# Altium schematic symbol library Smart_home.SchLib: 9 symbols
Pins are listed as number, name and electrical type; pins without a type are passive.

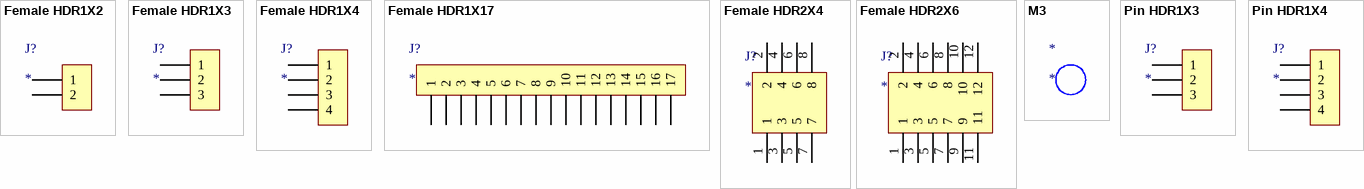
[diagram p0: symbols Female HDR1X2 to Pin HDR1X4]

## Female HDR1X2
designator J?
footprint Fe-HDR1X2/2.54-S (Connector; Header; 2x2 Position)
pins: 1, 2

## Female HDR1X3
designator J?
footprint Fe-HDR1X3/2.54-S
pins: 1, 2, 3

## Female HDR1X4
designator J?
footprint Fe-HDR1X4/2.54-S
pins: 1, 2, 3, 4

## Female HDR1X17
designator J?
footprint Fe-HDR1X17/2.54-S
pins: 1, 2, 3, 4, 5, 6, 7, 8, 9, 10, 11, 12, 13, 14, 15, 16, 17

## Female HDR2X4
designator J?
footprint Fe-HDR2X4/2.54-S (Connector; Header; 4x2 Position)
footprint Fe-HDR2X4/2.54-SMD
pins: 1, 2, 3, 4, 5, 6, 7, 8

## Female HDR2X6
designator J?
footprint Fe-HDR2X6/2.54-S (Connector; Header; 6x2 Position)
footprint Fe-HDR2X6/2.54-SMD
pins: 1, 2, 3, 4, 5, 6, 7, 8, 9, 10, 11, 12

## M3
designator *
铜柱孔; 版权归属: 源创客; BOM名称: 铜柱孔; 学习资源: www.ooocke.com
footprint M3 140X350 (M3螺丝孔，孔140Mil，焊盘350Mil)
footprint M3 125X300 (M3螺丝孔，孔125Mil，焊盘300Mil)
footprint M3 125X200 (M3螺丝孔，孔125Mil，焊盘200Mil)

## Pin HDR1X3
designator J?
footprint Pin HDR1X3/2.54mm-S
footprint Pin HDR1X3/2.54mm-W (Connector; Header; 3 Position; Right Angle)
pins: 1, 2, 3

## Pin HDR1X4
designator J?
footprint Pin HDR1X4/2.54mm-S
footprint Pin HDR1X4/2.54mm-W (Connector; Header; 4 Position; Right Angle)
pins: 1, 2, 3, 4